# Altium schematic symbol library LT1931AES5.Schlib: 1 symbol
Pins are listed as number, name and electrical type; pins without a type are passive.

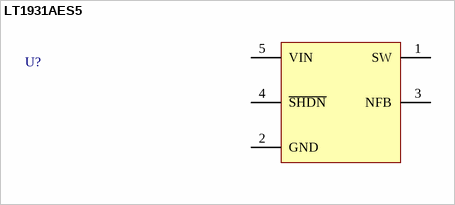
[diagram p0: symbol LT1931AES5]

## LT1931AES5
designator U?
SW Inv Regulator
pins: 1 SW (power), 2 GND (power), 3 NFB, 4 ~{SHDN}, 5 VIN (power)